# Altium footprint library SC-70.PcbLib: 1 footprints
Each footprint in its own frame and in the unit in brackets; x right, y up, seen from the top. Pads: shape width x height; smd on the part's side, far side on the other; paste and mask are expansions set on the pad; w line width, h text height; cw(c..) or ccw(c..) is an arc to the next point about the centre after c.
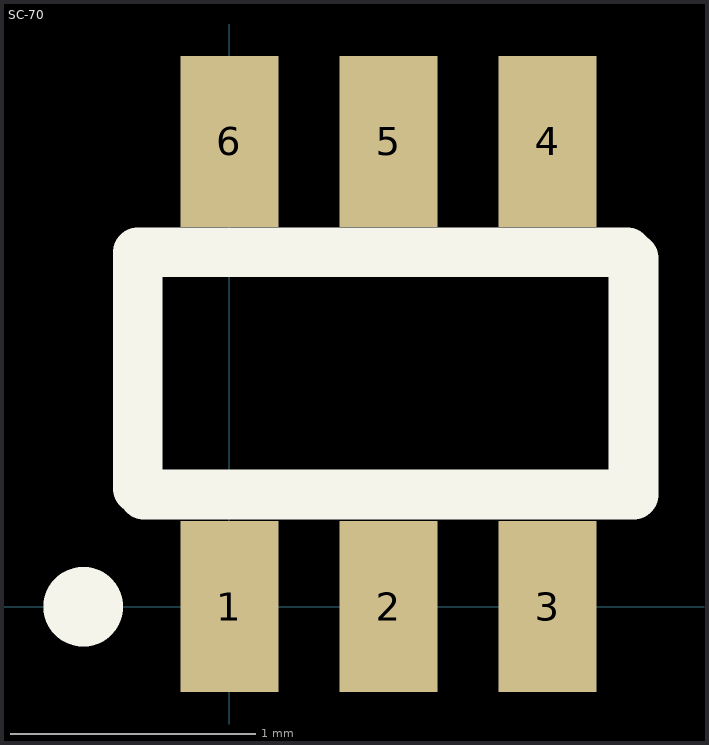
[diagram p0: the footprint, top view; thin cyan lines are the x and y axes]

## SC-70 [mm]
pads (6):
  rect 0.4x0.7 smd: 1(0,0) 2(0.65,0) 3(1.3,0) 4(1.3,1.9) 5(0.65,1.9) 6(0,1.9)
TopOverlay:
  circle w0.254: c-0.598,-0.001 r0.036
  lines w0.203: -0.374,0.483 -0.374,1.448 1.626,1.448 ; -0.349,0.457 1.651,0.457 1.651,1.422
Mechanical4:
  text ".040" at 0,0 h0.03
3D body: height 0.97, standoff 0.02, extent -0.363,-0.098 1.637,2.002